# EAGLE library part LM1972 (library Microphone)
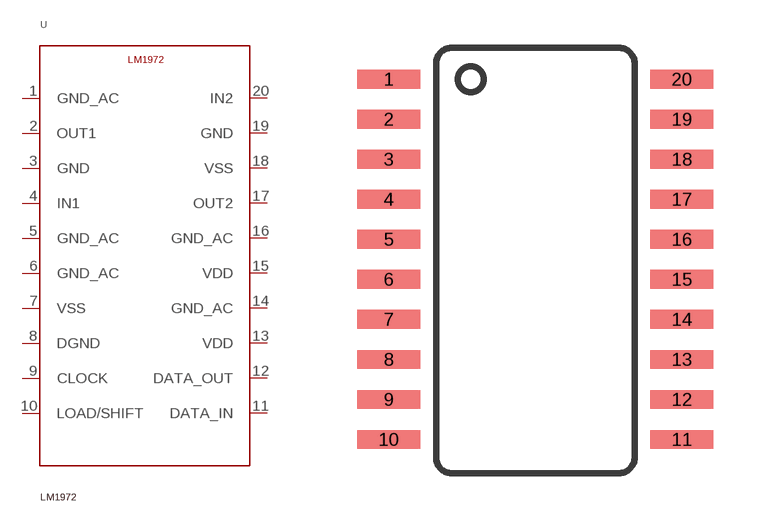
[diagram p0: symbol with the pads of SOIC-20; footprint SOIC-20]

Designator prefix U

## LM1972  [SOIC-20]
1  GND_AC  pwr
2  OUT1  out
3  GND  pwr
4  IN1  in
5  GND_AC  pwr
6  GND_AC  pwr
7  VSS  pwr
8  DGND  pwr
9  CLOCK  in
10  LOAD/SHIFT  in
11  DATA_IN  in
12  DATA_OUT  out
13  VDD  pwr
14  GND_AC  pwr
15  VDD  pwr
16  GND_AC  pwr
17  OUT2  out
18  VSS  pwr
19  GND  pwr
20  IN2  in

## Footprint SOIC-20 (pad centres in mm)
smd 2 x 0.6: 1 0,0; 2 0,-1.27; 3 0,-2.54; 4 0,-3.81; 5 0,-5.08; 6 0,-6.35; 7 0,-7.62; 8 0,-8.89; 9 0,-10.16; 10 0,-11.43; 11 9.3,-11.43; 12 9.3,-10.16; 13 9.3,-8.89; 14 9.3,-7.62; 15 9.3,-6.35; 16 9.3,-5.08; 17 9.3,-3.81; 18 9.3,-2.54; 19 9.3,-1.27; 20 9.3,0